# Altium schematic symbol library Switch-STD-coding_wheel.SchLib: 1 symbol
Pins are listed as number, name and electrical type; pins without a type are passive.

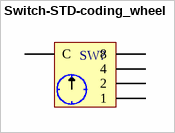
[diagram p0: symbol Switch-STD-coding_wheel]

## Switch-STD-coding_wheel
designator SW?  (value not drawn)
pins: 1, 2, 4, 8, C